# Altium integrated library Linear Technology PMIC-Switching Reg LTC1174-LTC3901.IntLib: 2647 symbols (part 112 of 310)
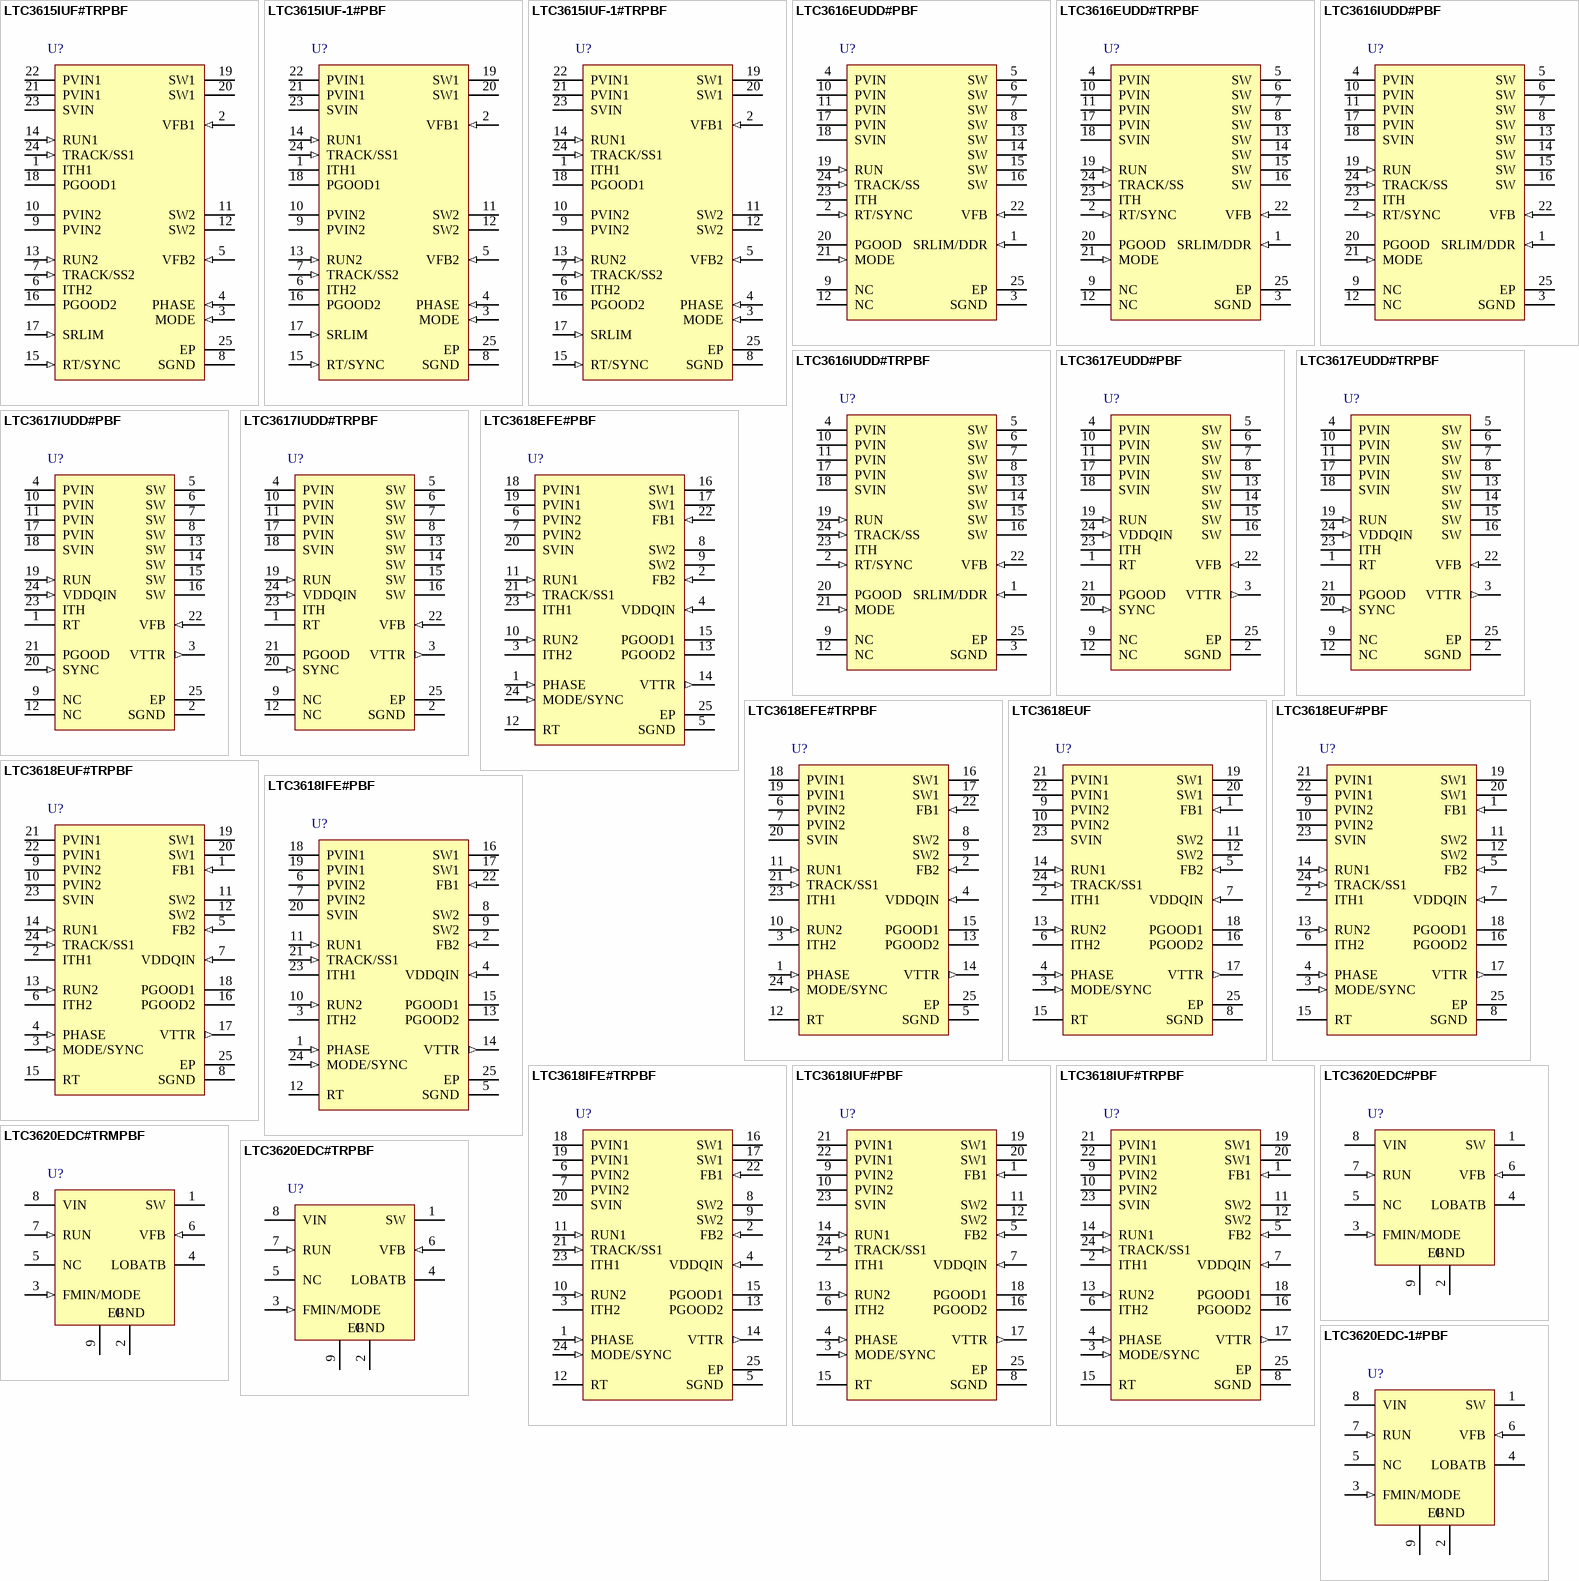
[diagram p180: symbols LTC3615IUF#TRPBF to LTC3620EDC-1#PBF]

## LTC3616EUDD#TRPBF
designator U?
6 A, 4 MHz Monolithic Synchronous Step-Down DC/DC Converter, 24-pin QFN (UDD-24), -40 to 125 degC, Pb-Free, Tape and Reel; Manufacturer: Linear Technology; PartNumber: LTC3616EUDD#TRPBF; Number of Outputs: 1; PackageReference: UDD-24; PackageDescription: 24-Pin Plastic QFN, Body 5 x 3 mm, Pitch 0.5 mm; Supplier 1: Digi-Key; Supplier Part Number 1: LTC3616EUDD#TRPBF-ND; RoHS: TRUE
footprint LT-UDD-24_N (QFN, 24-Leads, Body 5.1x3.1mm, Pitch 0.5mm, Thermal Pad 3.65x1.65mm, IPC Medium Density)
footprint LT-UDD-24_L (QFN, 24-Leads, Body 5.1x3.1mm, Pitch 0.5mm, Thermal Pad 3.65x1.65mm, IPC High Density)
footprint LT-UDD-24_M (QFN, 24-Leads, Body 5.1x3.1mm, Pitch 0.5mm, Thermal Pad 3.65x1.65mm, IPC Low Density)
pins: 1 SRLIM/DDR (in) "Slew Rate Limit. Tying this pin to ground selects maximum slew rate. Minimum slew rate is selected when the pin is open. Connecting a resistor from SRLIM/DDR to ground allows the slew rate to be continuously adjusted. If (See Datasheet)", 2 RT/SYNC (in), 3 SGND (power) "Signal Ground. All small-signal and compensation components should connect to this ground, which in turn should connect to PGND at a single point.", 4 PVIN (power) "Power Input Supply. PVIN connects to the source of the internal P-channel power MOSFET. This pin is independent of SVIN and may be connected to the same voltage or to a lower voltage supply.", 5 SW (power) "Switch Node. Connection to the inductor. These pins connect to the drains of the internal synchronous power MOSFET switches.", 6 SW (power) "Switch Node. Connection to the inductor. These pins connect to the drains of the internal synchronous power MOSFET switches.", 7 SW (power) "Switch Node. Connection to the inductor. These pins connect to the drains of the internal synchronous power MOSFET switches.", 8 SW (power) "Switch Node. Connection to the inductor. These pins connect to the drains of the internal synchronous power MOSFET switches.", 9 NC "Can be connected to ground or left open.", 10 PVIN (power) "Power Input Supply. PVIN connects to the source of the internal P-channel power MOSFET. This pin is independent of SVIN and may be connected to the same voltage or to a lower voltage supply.", 11 PVIN (power) "Power Input Supply. PVIN connects to the source of the internal P-channel power MOSFET. This pin is independent of SVIN and may be connected to the same voltage or to a lower voltage supply.", 12 NC "Can be connected to ground or left open.", 13 SW (power) "Switch Node. Connection to the inductor. These pins connect to the drains of the internal synchronous power MOSFET switches.", 14 SW (power) "Switch Node. Connection to the inductor. These pins connect to the drains of the internal synchronous power MOSFET switches.", 15 SW (power) "Switch Node. Connection to the inductor. These pins connect to the drains of the internal synchronous power MOSFET switches.", 16 SW (power) "Switch Node. Connection to the inductor. These pins connect to the drains of the internal synchronous power MOSFET switches.", 17 PVIN (power) "Power Input Supply. PVIN connects to the source of the internal P-channel power MOSFET. This pin is independent of SVIN and may be connected to the same voltage or to a lower voltage supply.", 18 SVIN (power) "Signal Input Supply. This pin powers the internal control circuitry and is monitored by the undervoltage lockout comparator.", 19 RUN (in), 20 PGOOD (oc) "Power Good. This open-drain output is pulled down to SGND on start-up and while the FB voltage is outside the power good voltage window. If the FB voltage increases and stays inside the power good window for more than 100us (See Datasheet)", 21 MODE (in) "Mode Selection. Tying the MODE pin to SVIN or SGND enables pulse-skipping mode or Burst  Mode operation (with an internal Burst Mode clamp),  respectively. If this pin is held at slightly higher than half of SVIN, forced (See Datasheet)", 22 VFB (in) "Voltage Feedback Input Pin. Senses the feedback voltage from the external resistive divider across the output.", 23 ITH "Error Amplifier Compensation. The current  comparator's threshold increases with this control voltage. Tying this pin to SVIN enables internal compensation  and AVP mode.", 24 TRACK/SS (in) "Track/External Soft-Start/External  Reference. Start-up behavior is programmable with the TRACK/SS pin: 1. Tying this pin to SVIN selects the internal soft-start circuit. 2. External soft-start timing can be programmed with (See Datasheet)", 25 EP (power) "Power Ground. This pin  connects to the source of the internal N-channel power  MOSFET. This pin should be connected close to the (-)  terminal of CIN and COUT"

## LTC3616IUDD#PBF
designator U?
6 A, 4 MHz Monolithic Synchronous Step-Down DC/DC Converter, 24-pin QFN (UDD-24), -40 to 125 degC, Pb-Free; Manufacturer: Linear Technology; PartNumber: LTC3616IUDD#PBF; Number of Outputs: 1; PackageReference: UDD-24; PackageDescription: 24-Pin Plastic QFN, Body 5 x 3 mm, Pitch 0.5 mm; Supplier 1: Digi-Key; Supplier Part Number 1: LTC3616IUDD#PBF-ND; RoHS: TRUE
footprint LT-UDD-24_N (QFN, 24-Leads, Body 5.1x3.1mm, Pitch 0.5mm, Thermal Pad 3.65x1.65mm, IPC Medium Density)
footprint LT-UDD-24_L (QFN, 24-Leads, Body 5.1x3.1mm, Pitch 0.5mm, Thermal Pad 3.65x1.65mm, IPC High Density)
footprint LT-UDD-24_M (QFN, 24-Leads, Body 5.1x3.1mm, Pitch 0.5mm, Thermal Pad 3.65x1.65mm, IPC Low Density)
pins: 1 SRLIM/DDR (in) "Slew Rate Limit. Tying this pin to ground selects maximum slew rate. Minimum slew rate is selected when the pin is open. Connecting a resistor from SRLIM/DDR to ground allows the slew rate to be continuously adjusted. If (See Datasheet)", 2 RT/SYNC (in), 3 SGND (power) "Signal Ground. All small-signal and compensation components should connect to this ground, which in turn should connect to PGND at a single point.", 4 PVIN (power) "Power Input Supply. PVIN connects to the source of the internal P-channel power MOSFET. This pin is independent of SVIN and may be connected to the same voltage or to a lower voltage supply.", 5 SW (power) "Switch Node. Connection to the inductor. These pins connect to the drains of the internal synchronous power MOSFET switches.", 6 SW (power) "Switch Node. Connection to the inductor. These pins connect to the drains of the internal synchronous power MOSFET switches.", 7 SW (power) "Switch Node. Connection to the inductor. These pins connect to the drains of the internal synchronous power MOSFET switches.", 8 SW (power) "Switch Node. Connection to the inductor. These pins connect to the drains of the internal synchronous power MOSFET switches.", 9 NC "Can be connected to ground or left open.", 10 PVIN (power) "Power Input Supply. PVIN connects to the source of the internal P-channel power MOSFET. This pin is independent of SVIN and may be connected to the same voltage or to a lower voltage supply.", 11 PVIN (power) "Power Input Supply. PVIN connects to the source of the internal P-channel power MOSFET. This pin is independent of SVIN and may be connected to the same voltage or to a lower voltage supply.", 12 NC "Can be connected to ground or left open.", 13 SW (power) "Switch Node. Connection to the inductor. These pins connect to the drains of the internal synchronous power MOSFET switches.", 14 SW (power) "Switch Node. Connection to the inductor. These pins connect to the drains of the internal synchronous power MOSFET switches.", 15 SW (power) "Switch Node. Connection to the inductor. These pins connect to the drains of the internal synchronous power MOSFET switches.", 16 SW (power) "Switch Node. Connection to the inductor. These pins connect to the drains of the internal synchronous power MOSFET switches.", 17 PVIN (power) "Power Input Supply. PVIN connects to the source of the internal P-channel power MOSFET. This pin is independent of SVIN and may be connected to the same voltage or to a lower voltage supply.", 18 SVIN (power) "Signal Input Supply. This pin powers the internal control circuitry and is monitored by the undervoltage lockout comparator.", 19 RUN (in), 20 PGOOD (oc) "Power Good. This open-drain output is pulled down to SGND on start-up and while the FB voltage is outside the power good voltage window. If the FB voltage increases and stays inside the power good window for more than 100us (See Datasheet)", 21 MODE (in) "Mode Selection. Tying the MODE pin to SVIN or SGND enables pulse-skipping mode or Burst  Mode operation (with an internal Burst Mode clamp),  respectively. If this pin is held at slightly higher than half of SVIN, forced (See Datasheet)", 22 VFB (in) "Voltage Feedback Input Pin. Senses the feedback voltage from the external resistive divider across the output.", 23 ITH "Error Amplifier Compensation. The current  comparator's threshold increases with this control voltage. Tying this pin to SVIN enables internal compensation  and AVP mode.", 24 TRACK/SS (in) "Track/External Soft-Start/External  Reference. Start-up behavior is programmable with the TRACK/SS pin: 1. Tying this pin to SVIN selects the internal soft-start circuit. 2. External soft-start timing can be programmed with (See Datasheet)", 25 EP (power) "Power Ground. This pin  connects to the source of the internal N-channel power  MOSFET. This pin should be connected close to the (-)  terminal of CIN and COUT"

## LTC3616IUDD#TRPBF
designator U?
6 A, 4 MHz Monolithic Synchronous Step-Down DC/DC Converter, 24-pin QFN (UDD-24), -40 to 125 degC, Pb-Free, Tape and Reel; Manufacturer: Linear Technology; PartNumber: LTC3616IUDD#TRPBF; Number of Outputs: 1; PackageReference: UDD-24; PackageDescription: 24-Pin Plastic QFN, Body 5 x 3 mm, Pitch 0.5 mm; Supplier 1: Digi-Key; Supplier Part Number 1: LTC3616IUDD#TRPBF-ND; RoHS: TRUE
footprint LT-UDD-24_N (QFN, 24-Leads, Body 5.1x3.1mm, Pitch 0.5mm, Thermal Pad 3.65x1.65mm, IPC Medium Density)
footprint LT-UDD-24_L (QFN, 24-Leads, Body 5.1x3.1mm, Pitch 0.5mm, Thermal Pad 3.65x1.65mm, IPC High Density)
footprint LT-UDD-24_M (QFN, 24-Leads, Body 5.1x3.1mm, Pitch 0.5mm, Thermal Pad 3.65x1.65mm, IPC Low Density)
pins: 1 SRLIM/DDR (in) "Slew Rate Limit. Tying this pin to ground selects maximum slew rate. Minimum slew rate is selected when the pin is open. Connecting a resistor from SRLIM/DDR to ground allows the slew rate to be continuously adjusted. If (See Datasheet)", 2 RT/SYNC (in), 3 SGND (power) "Signal Ground. All small-signal and compensation components should connect to this ground, which in turn should connect to PGND at a single point.", 4 PVIN (power) "Power Input Supply. PVIN connects to the source of the internal P-channel power MOSFET. This pin is independent of SVIN and may be connected to the same voltage or to a lower voltage supply.", 5 SW (power) "Switch Node. Connection to the inductor. These pins connect to the drains of the internal synchronous power MOSFET switches.", 6 SW (power) "Switch Node. Connection to the inductor. These pins connect to the drains of the internal synchronous power MOSFET switches.", 7 SW (power) "Switch Node. Connection to the inductor. These pins connect to the drains of the internal synchronous power MOSFET switches.", 8 SW (power) "Switch Node. Connection to the inductor. These pins connect to the drains of the internal synchronous power MOSFET switches.", 9 NC "Can be connected to ground or left open.", 10 PVIN (power) "Power Input Supply. PVIN connects to the source of the internal P-channel power MOSFET. This pin is independent of SVIN and may be connected to the same voltage or to a lower voltage supply.", 11 PVIN (power) "Power Input Supply. PVIN connects to the source of the internal P-channel power MOSFET. This pin is independent of SVIN and may be connected to the same voltage or to a lower voltage supply.", 12 NC "Can be connected to ground or left open.", 13 SW (power) "Switch Node. Connection to the inductor. These pins connect to the drains of the internal synchronous power MOSFET switches.", 14 SW (power) "Switch Node. Connection to the inductor. These pins connect to the drains of the internal synchronous power MOSFET switches.", 15 SW (power) "Switch Node. Connection to the inductor. These pins connect to the drains of the internal synchronous power MOSFET switches.", 16 SW (power) "Switch Node. Connection to the inductor. These pins connect to the drains of the internal synchronous power MOSFET switches.", 17 PVIN (power) "Power Input Supply. PVIN connects to the source of the internal P-channel power MOSFET. This pin is independent of SVIN and may be connected to the same voltage or to a lower voltage supply.", 18 SVIN (power) "Signal Input Supply. This pin powers the internal control circuitry and is monitored by the undervoltage lockout comparator.", 19 RUN (in), 20 PGOOD (oc) "Power Good. This open-drain output is pulled down to SGND on start-up and while the FB voltage is outside the power good voltage window. If the FB voltage increases and stays inside the power good window for more than 100us (See Datasheet)", 21 MODE (in) "Mode Selection. Tying the MODE pin to SVIN or SGND enables pulse-skipping mode or Burst  Mode operation (with an internal Burst Mode clamp),  respectively. If this pin is held at slightly higher than half of SVIN, forced (See Datasheet)", 22 VFB (in) "Voltage Feedback Input Pin. Senses the feedback voltage from the external resistive divider across the output.", 23 ITH "Error Amplifier Compensation. The current  comparator's threshold increases with this control voltage. Tying this pin to SVIN enables internal compensation  and AVP mode.", 24 TRACK/SS (in) "Track/External Soft-Start/External  Reference. Start-up behavior is programmable with the TRACK/SS pin: 1. Tying this pin to SVIN selects the internal soft-start circuit. 2. External soft-start timing can be programmed with (See Datasheet)", 25 EP (power) "Power Ground. This pin  connects to the source of the internal N-channel power  MOSFET. This pin should be connected close to the (-)  terminal of CIN and COUT"

## LTC3617EUDD#PBF
designator U?
+/-6 A Monolithic Synchronous Step-Down Regulator for DDR Termination, 24-pin QFN (UDD-24), -40 to 125 degC, Pb-Free; Manufacturer: Linear Technology; PartNumber: LTC3617EUDD#PBF; Number of Outputs: 2; PackageReference: UDD-24; PackageDescription: 24-Pin Plastic QFN, Body 5 x 3 mm, Pitch 0.5 mm; Supplier 1: Digi-Key; Supplier Part Number 1: LTC3617EUDD#PBF-ND; RoHS: TRUE
footprint LT-UDD-24_N (QFN, 24-Leads, Body 5.1x3.1mm, Pitch 0.5mm, Thermal Pad 3.65x1.65mm, IPC Medium Density)
footprint LT-UDD-24_L (QFN, 24-Leads, Body 5.1x3.1mm, Pitch 0.5mm, Thermal Pad 3.65x1.65mm, IPC High Density)
footprint LT-UDD-24_M (QFN, 24-Leads, Body 5.1x3.1mm, Pitch 0.5mm, Thermal Pad 3.65x1.65mm, IPC Low Density)
pins: 1 RT "Oscillator Frequency. This pin provides two ways of setting the constant switching frequency: 1. Connecting a resistor from RT to ground will set the switching frequency based on the resistor value. 2. Tying the RT pin to (See Datasheet)", 2 SGND (power) "Signal Ground. All small-signal and compensation components should connect to this ground, which in turn should connect to PGND at a single point.", 3 VTTR (out) "Voltage Buffer Output. This pin is the output of an internal voltage buffer whose voltage is equal to VDDQIN 0.5. Output current capability is +/-10mA. VTTR is also the reference voltage of the error amplifier, whic(See Datasheet)", 4 PVIN (power) "Power Input Supply. PVIN connects to the source of the internal P-channel power MOSFET. This pin is independent of SVIN and may be connected to the same supply or to a lower voltage.", 5 SW (power) "Switch Node. Connection to the inductor. These pins connect to the drains of the internal power MOSFET switches.", 6 SW (power) "Switch Node. Connection to the inductor. These pins connect to the drains of the internal power MOSFET switches.", 7 SW (power) "Switch Node. Connection to the inductor. These pins connect to the drains of the internal power MOSFET switches.", 8 SW (power) "Switch Node. Connection to the inductor. These pins connect to the drains of the internal power MOSFET switches.", 9 NC "Can be connected to ground or left open.", 10 PVIN (power) "Power Input Supply. PVIN connects to the source of the internal P-channel power MOSFET. This pin is independent of SVIN and may be connected to the same supply or to a lower voltage.", 11 PVIN (power) "Power Input Supply. PVIN connects to the source of the internal P-channel power MOSFET. This pin is independent of SVIN and may be connected to the same supply or to a lower voltage.", 12 NC "Can be connected to ground or left open.", 13 SW (power) "Switch Node. Connection to the inductor. These pins connect to the drains of the internal power MOSFET switches.", 14 SW (power) "Switch Node. Connection to the inductor. These pins connect to the drains of the internal power MOSFET switches.", 15 SW (power) "Switch Node. Connection to the inductor. These pins connect to the drains of the internal power MOSFET switches.", 16 SW (power) "Switch Node. Connection to the inductor. These pins connect to the drains of the internal power MOSFET switches.", 17 PVIN (power) "Power Input Supply. PVIN connects to the source of the internal P-channel power MOSFET. This pin is independent of SVIN and may be connected to the same supply or to a lower voltage.", 18 SVIN (power) "Signal Input Supply. This pin powers the internal control circuitry and is monitored by the undervoltage lockout comparator.", 19 RUN (in) "Enable Input. Pulling this pin high enables the LTC3617 and forcing it to ground shuts the regulator down. In shutdown, all functions are disabled and the chip draws <1uA of supply current.", 20 SYNC (in) "External Synchronization Input. When a clock signal is applied to this pin, the switching frequency synchronizes to this clock signal. This pin can be either floating or tied to ground if an external clock is not being used.", 21 PGOOD (oc) "Power Good. This open-drain output is pulled down to SGND on start-up and when the FB voltage is outside the power good voltage window. If the FB voltage increases and stays inside the power good window for more than 100us (See Datasheet)", 22 VFB (in) "Voltage Feedback Input Pin. Senses the feedback voltage from the external resistive divider across the output.", 23 ITH "Error Amplifier Compensation. The current comparator’s threshold increases with this control voltage. Tying this pin to SVIN enables internal compensation.", 24 VDDQIN (in) "External Reference Input. An internal resistor divider sets the VTTR and VFB regulated voltages to be equal to half the voltage applied to this input.", 25 EP (power) "Power Ground. This pin connects to the source of the internal N-channel power MOSFET. This pin should be connected close to the (-) terminal of CIN and COUT."

## LTC3617EUDD#TRPBF
designator U?
+/-6 A Monolithic Synchronous Step-Down Regulator for DDR Termination, 24-pin QFN (UDD-24), -40 to 125 degC, Pb-Free, Tape and Reel; Manufacturer: Linear Technology; PartNumber: LTC3617EUDD#TRPBF; Number of Outputs: 2; PackageReference: UDD-24; PackageDescription: 24-Pin Plastic QFN, Body 5 x 3 mm, Pitch 0.5 mm; Supplier 1: Digi-Key; Supplier Part Number 1: LTC3617EUDD#TRPBF-ND; RoHS: TRUE
footprint LT-UDD-24_N (QFN, 24-Leads, Body 5.1x3.1mm, Pitch 0.5mm, Thermal Pad 3.65x1.65mm, IPC Medium Density)
footprint LT-UDD-24_L (QFN, 24-Leads, Body 5.1x3.1mm, Pitch 0.5mm, Thermal Pad 3.65x1.65mm, IPC High Density)
footprint LT-UDD-24_M (QFN, 24-Leads, Body 5.1x3.1mm, Pitch 0.5mm, Thermal Pad 3.65x1.65mm, IPC Low Density)
pins: 1 RT "Oscillator Frequency. This pin provides two ways of setting the constant switching frequency: 1. Connecting a resistor from RT to ground will set the switching frequency based on the resistor value. 2. Tying the RT pin to (See Datasheet)", 2 SGND (power) "Signal Ground. All small-signal and compensation components should connect to this ground, which in turn should connect to PGND at a single point.", 3 VTTR (out) "Voltage Buffer Output. This pin is the output of an internal voltage buffer whose voltage is equal to VDDQIN 0.5. Output current capability is +/-10mA. VTTR is also the reference voltage of the error amplifier, whic(See Datasheet)", 4 PVIN (power) "Power Input Supply. PVIN connects to the source of the internal P-channel power MOSFET. This pin is independent of SVIN and may be connected to the same supply or to a lower voltage.", 5 SW (power) "Switch Node. Connection to the inductor. These pins connect to the drains of the internal power MOSFET switches.", 6 SW (power) "Switch Node. Connection to the inductor. These pins connect to the drains of the internal power MOSFET switches.", 7 SW (power) "Switch Node. Connection to the inductor. These pins connect to the drains of the internal power MOSFET switches.", 8 SW (power) "Switch Node. Connection to the inductor. These pins connect to the drains of the internal power MOSFET switches.", 9 NC "Can be connected to ground or left open.", 10 PVIN (power) "Power Input Supply. PVIN connects to the source of the internal P-channel power MOSFET. This pin is independent of SVIN and may be connected to the same supply or to a lower voltage.", 11 PVIN (power) "Power Input Supply. PVIN connects to the source of the internal P-channel power MOSFET. This pin is independent of SVIN and may be connected to the same supply or to a lower voltage.", 12 NC "Can be connected to ground or left open.", 13 SW (power) "Switch Node. Connection to the inductor. These pins connect to the drains of the internal power MOSFET switches.", 14 SW (power) "Switch Node. Connection to the inductor. These pins connect to the drains of the internal power MOSFET switches.", 15 SW (power) "Switch Node. Connection to the inductor. These pins connect to the drains of the internal power MOSFET switches.", 16 SW (power) "Switch Node. Connection to the inductor. These pins connect to the drains of the internal power MOSFET switches.", 17 PVIN (power) "Power Input Supply. PVIN connects to the source of the internal P-channel power MOSFET. This pin is independent of SVIN and may be connected to the same supply or to a lower voltage.", 18 SVIN (power) "Signal Input Supply. This pin powers the internal control circuitry and is monitored by the undervoltage lockout comparator.", 19 RUN (in) "Enable Input. Pulling this pin high enables the LTC3617 and forcing it to ground shuts the regulator down. In shutdown, all functions are disabled and the chip draws <1uA of supply current.", 20 SYNC (in) "External Synchronization Input. When a clock signal is applied to this pin, the switching frequency synchronizes to this clock signal. This pin can be either floating or tied to ground if an external clock is not being used.", 21 PGOOD (oc) "Power Good. This open-drain output is pulled down to SGND on start-up and when the FB voltage is outside the power good voltage window. If the FB voltage increases and stays inside the power good window for more than 100us (See Datasheet)", 22 VFB (in) "Voltage Feedback Input Pin. Senses the feedback voltage from the external resistive divider across the output.", 23 ITH "Error Amplifier Compensation. The current comparator’s threshold increases with this control voltage. Tying this pin to SVIN enables internal compensation.", 24 VDDQIN (in) "External Reference Input. An internal resistor divider sets the VTTR and VFB regulated voltages to be equal to half the voltage applied to this input.", 25 EP (power) "Power Ground. This pin connects to the source of the internal N-channel power MOSFET. This pin should be connected close to the (-) terminal of CIN and COUT."

## LTC3617IUDD#PBF
designator U?
+/-6 A Monolithic Synchronous Step-Down Regulator for DDR Termination, 24-pin QFN (UDD-24), -40 to 125 degC, Pb-Free; Manufacturer: Linear Technology; PartNumber: LTC3617IUDD#PBF; Number of Outputs: 2; PackageReference: UDD-24; PackageDescription: 24-Pin Plastic QFN, Body 5 x 3 mm, Pitch 0.5 mm; Supplier 1: Digi-Key; Supplier Part Number 1: LTC3617IUDD#PBF-ND; RoHS: TRUE
footprint LT-UDD-24_N (QFN, 24-Leads, Body 5.1x3.1mm, Pitch 0.5mm, Thermal Pad 3.65x1.65mm, IPC Medium Density)
footprint LT-UDD-24_L (QFN, 24-Leads, Body 5.1x3.1mm, Pitch 0.5mm, Thermal Pad 3.65x1.65mm, IPC High Density)
footprint LT-UDD-24_M (QFN, 24-Leads, Body 5.1x3.1mm, Pitch 0.5mm, Thermal Pad 3.65x1.65mm, IPC Low Density)
pins: 1 RT "Oscillator Frequency. This pin provides two ways of setting the constant switching frequency: 1. Connecting a resistor from RT to ground will set the switching frequency based on the resistor value. 2. Tying the RT pin to (See Datasheet)", 2 SGND (power) "Signal Ground. All small-signal and compensation components should connect to this ground, which in turn should connect to PGND at a single point.", 3 VTTR (out) "Voltage Buffer Output. This pin is the output of an internal voltage buffer whose voltage is equal to VDDQIN 0.5. Output current capability is +/-10mA. VTTR is also the reference voltage of the error amplifier, whic(See Datasheet)", 4 PVIN (power) "Power Input Supply. PVIN connects to the source of the internal P-channel power MOSFET. This pin is independent of SVIN and may be connected to the same supply or to a lower voltage.", 5 SW (power) "Switch Node. Connection to the inductor. These pins connect to the drains of the internal power MOSFET switches.", 6 SW (power) "Switch Node. Connection to the inductor. These pins connect to the drains of the internal power MOSFET switches.", 7 SW (power) "Switch Node. Connection to the inductor. These pins connect to the drains of the internal power MOSFET switches.", 8 SW (power) "Switch Node. Connection to the inductor. These pins connect to the drains of the internal power MOSFET switches.", 9 NC "Can be connected to ground or left open.", 10 PVIN (power) "Power Input Supply. PVIN connects to the source of the internal P-channel power MOSFET. This pin is independent of SVIN and may be connected to the same supply or to a lower voltage.", 11 PVIN (power) "Power Input Supply. PVIN connects to the source of the internal P-channel power MOSFET. This pin is independent of SVIN and may be connected to the same supply or to a lower voltage.", 12 NC "Can be connected to ground or left open.", 13 SW (power) "Switch Node. Connection to the inductor. These pins connect to the drains of the internal power MOSFET switches.", 14 SW (power) "Switch Node. Connection to the inductor. These pins connect to the drains of the internal power MOSFET switches.", 15 SW (power) "Switch Node. Connection to the inductor. These pins connect to the drains of the internal power MOSFET switches.", 16 SW (power) "Switch Node. Connection to the inductor. These pins connect to the drains of the internal power MOSFET switches.", 17 PVIN (power) "Power Input Supply. PVIN connects to the source of the internal P-channel power MOSFET. This pin is independent of SVIN and may be connected to the same supply or to a lower voltage.", 18 SVIN (power) "Signal Input Supply. This pin powers the internal control circuitry and is monitored by the undervoltage lockout comparator.", 19 RUN (in) "Enable Input. Pulling this pin high enables the LTC3617 and forcing it to ground shuts the regulator down. In shutdown, all functions are disabled and the chip draws <1uA of supply current.", 20 SYNC (in) "External Synchronization Input. When a clock signal is applied to this pin, the switching frequency synchronizes to this clock signal. This pin can be either floating or tied to ground if an external clock is not being used.", 21 PGOOD (oc) "Power Good. This open-drain output is pulled down to SGND on start-up and when the FB voltage is outside the power good voltage window. If the FB voltage increases and stays inside the power good window for more than 100us (See Datasheet)", 22 VFB (in) "Voltage Feedback Input Pin. Senses the feedback voltage from the external resistive divider across the output.", 23 ITH "Error Amplifier Compensation. The current comparator’s threshold increases with this control voltage. Tying this pin to SVIN enables internal compensation.", 24 VDDQIN (in) "External Reference Input. An internal resistor divider sets the VTTR and VFB regulated voltages to be equal to half the voltage applied to this input.", 25 EP (power) "Power Ground. This pin connects to the source of the internal N-channel power MOSFET. This pin should be connected close to the (-) terminal of CIN and COUT."

## LTC3617IUDD#TRPBF
designator U?
+/-6 A Monolithic Synchronous Step-Down Regulator for DDR Termination, 24-pin QFN (UDD-24), -40 to 125 degC, Pb-Free, Tape and Reel; Manufacturer: Linear Technology; PartNumber: LTC3617IUDD#TRPBF; Number of Outputs: 2; PackageReference: UDD-24; PackageDescription: 24-Pin Plastic QFN, Body 5 x 3 mm, Pitch 0.5 mm; Supplier 1: Digi-Key; Supplier Part Number 1: LTC3617IUDD#TRPBF-ND; RoHS: TRUE
footprint LT-UDD-24_N (QFN, 24-Leads, Body 5.1x3.1mm, Pitch 0.5mm, Thermal Pad 3.65x1.65mm, IPC Medium Density)
footprint LT-UDD-24_L (QFN, 24-Leads, Body 5.1x3.1mm, Pitch 0.5mm, Thermal Pad 3.65x1.65mm, IPC High Density)
footprint LT-UDD-24_M (QFN, 24-Leads, Body 5.1x3.1mm, Pitch 0.5mm, Thermal Pad 3.65x1.65mm, IPC Low Density)
pins: 1 RT "Oscillator Frequency. This pin provides two ways of setting the constant switching frequency: 1. Connecting a resistor from RT to ground will set the switching frequency based on the resistor value. 2. Tying the RT pin to (See Datasheet)", 2 SGND (power) "Signal Ground. All small-signal and compensation components should connect to this ground, which in turn should connect to PGND at a single point.", 3 VTTR (out) "Voltage Buffer Output. This pin is the output of an internal voltage buffer whose voltage is equal to VDDQIN 0.5. Output current capability is +/-10mA. VTTR is also the reference voltage of the error amplifier, whic(See Datasheet)", 4 PVIN (power) "Power Input Supply. PVIN connects to the source of the internal P-channel power MOSFET. This pin is independent of SVIN and may be connected to the same supply or to a lower voltage.", 5 SW (power) "Switch Node. Connection to the inductor. These pins connect to the drains of the internal power MOSFET switches.", 6 SW (power) "Switch Node. Connection to the inductor. These pins connect to the drains of the internal power MOSFET switches.", 7 SW (power) "Switch Node. Connection to the inductor. These pins connect to the drains of the internal power MOSFET switches.", 8 SW (power) "Switch Node. Connection to the inductor. These pins connect to the drains of the internal power MOSFET switches.", 9 NC "Can be connected to ground or left open.", 10 PVIN (power) "Power Input Supply. PVIN connects to the source of the internal P-channel power MOSFET. This pin is independent of SVIN and may be connected to the same supply or to a lower voltage.", 11 PVIN (power) "Power Input Supply. PVIN connects to the source of the internal P-channel power MOSFET. This pin is independent of SVIN and may be connected to the same supply or to a lower voltage.", 12 NC "Can be connected to ground or left open.", 13 SW (power) "Switch Node. Connection to the inductor. These pins connect to the drains of the internal power MOSFET switches.", 14 SW (power) "Switch Node. Connection to the inductor. These pins connect to the drains of the internal power MOSFET switches.", 15 SW (power) "Switch Node. Connection to the inductor. These pins connect to the drains of the internal power MOSFET switches.", 16 SW (power) "Switch Node. Connection to the inductor. These pins connect to the drains of the internal power MOSFET switches.", 17 PVIN (power) "Power Input Supply. PVIN connects to the source of the internal P-channel power MOSFET. This pin is independent of SVIN and may be connected to the same supply or to a lower voltage.", 18 SVIN (power) "Signal Input Supply. This pin powers the internal control circuitry and is monitored by the undervoltage lockout comparator.", 19 RUN (in) "Enable Input. Pulling this pin high enables the LTC3617 and forcing it to ground shuts the regulator down. In shutdown, all functions are disabled and the chip draws <1uA of supply current.", 20 SYNC (in) "External Synchronization Input. When a clock signal is applied to this pin, the switching frequency synchronizes to this clock signal. This pin can be either floating or tied to ground if an external clock is not being used.", 21 PGOOD (oc) "Power Good. This open-drain output is pulled down to SGND on start-up and when the FB voltage is outside the power good voltage window. If the FB voltage increases and stays inside the power good window for more than 100us (See Datasheet)", 22 VFB (in) "Voltage Feedback Input Pin. Senses the feedback voltage from the external resistive divider across the output.", 23 ITH "Error Amplifier Compensation. The current comparator’s threshold increases with this control voltage. Tying this pin to SVIN enables internal compensation.", 24 VDDQIN (in) "External Reference Input. An internal resistor divider sets the VTTR and VFB regulated voltages to be equal to half the voltage applied to this input.", 25 EP (power) "Power Ground. This pin connects to the source of the internal N-channel power MOSFET. This pin should be connected close to the (-) terminal of CIN and COUT."

## LTC3618EFE#PBF
designator U?
Dual 4 MHz, +/-3 A Synchronous Buck Converter for DDR Termination, 24-pin SOP (FE-24-EPV-AA), -40 to 125 degC, Pb-Free; Manufacturer: Linear Technology; PartNumber: LTC3618EFE#PBF; Number of Outputs: 3; PackageReference: FE-24; PackageDescription: 24-Pin Plastic TSSOP, Body 7.8 x 4.4 mm, Pitch 0.65 mm; Supplier 1: Digi-Key; Supplier Part Number 1: LTC3618EFE#PBF-ND; RoHS: TRUE
footprint LT-FE-24-EPV-AA_N (SOP, 24-Leads, Body 7.9x4.5mm, Pitch 0.65mm, Thermal Pad 2.74x3.25mm, IPC Medium Density)
footprint LT-FE-24-EPV-AA_L (SOP, 24-Leads, Body 7.9x4.5mm, Pitch 0.65mm, Thermal Pad 2.74x3.25mm, IPC High Density)
footprint LT-FE-24-EPV-AA_M (SOP, 24-Leads, Body 7.9x4.5mm, Pitch 0.65mm, Thermal Pad 2.74x3.25mm, IPC Low Density)
pins: 1 PHASE (in) "Phase Shift Selection. If pin is tied to SGND, the phase between SW1 and SW2 will be 0degrees. Tying PHASE to SVIN will select 180degrees phase shift. With the PHASE pin tied to half of the SVIN voltage, 90degrees phase (See Datasheet)", 2 FB2 (in) "Voltage Feedback Input Pin for VTT. See VFB1.", 3 ITH2 "Error Amplifier Compensation of VTT. See ITH1.", 4 VDDQIN (in) "External Reference Input. An internal resistor divider to the error amplifier sets the output voltage of VTT. VFB2 will regulate to VDDQIN ?0.5.", 5 SGND (power) "Signal Ground. All small-signal and compensation components should connect to this ground pin which, in turn, should be connected to PGND at one point.", 6 PVIN2 (power) "VTT Power Supply Input. See PVIN1.", 7 PVIN2 (power) "VTT Power Supply Input. See PVIN1.", 8 SW2 (power) "VTT Switch Node. See SW1.", 9 SW2 (power) "VTT Switch Node. See SW1.", 10 RUN2 (in) "Enable Pin for VTT. See RUN1.", 11 RUN1 (in) "Enable Pin for VDDQ. Forcing RUN1 above the input threshold voltage enables the output SW1 of VDDQ. Forcing both RUNx pins to ground shuts down the LTC3618. In shutdown, all functions are disabled and the LTC3618 draws <1uA (See Datasheet)", 12 RT "Oscillator Frequency. This pin provides two modes of setting the switching frequency. 1. Connecting a resistor from RT to ground will set the switching frequency based on the resistor value. 2. Tying this pin to SVIN enables (See Datasheet)", 13 PGOOD2 (oc) "Power Good Output for VTT. See PGOOD1.", 14 VTTR (out) "Voltage Buffer Output. This pin is the output of an internal voltage buffer whose voltage is equal to VDDQIN ?0.5. Output current capability is +/-10mA. Do not exceed 0.1uF capacitance on this pin. This output i(See Datasheet)", 15 PGOOD1 (oc) "Power Good Output Pin for VDDQ. The open-drain output will be pulled down to ground if the FB1 voltage of the channel is not within the power good voltage window. The PGOOD1 will also be pulled down if the channel is not (See Datasheet)", 16 SW1 (power) "VDDQ Switch Node. Connection to the external inductor. This pin connects to the drains of the internal synchronous power MOSFET switches.", 17 SW1 (power) "VDDQ Switch Node. Connection to the external inductor. This pin connects to the drains of the internal synchronous power MOSFET switches.", 18 PVIN1 (power) "VDDQ Power Supply Inputs. These pins connect to the source of the internal power P-channel MOSFET of VDDQ. PVIN1 and PVIN2 are independent of each other. They may connect to equal or lower supplies than SVIN.", 19 PVIN1 (power) "VDDQ Power Supply Inputs. These pins connect to the source of the internal power P-channel MOSFET of VDDQ. PVIN1 and PVIN2 are independent of each other. They may connect to equal or lower supplies than SVIN.", 20 SVIN (power) "Signal Input Supply. This pin powers the internal control circuitry and is monitored by the undervoltage lockout comparator.", 21 TRACK/SS1 (in) "Internal, External Soft-Start, External Reference Input for VDDQ. The type of start-up behavior for VDDQ is programmable with the TRACK/SS1 pin: 1. Internal soft-start with fixed timing can be programmed by tying TRACK/SS1 (See Datasheet)", 22 FB1 (in) "Voltage Feedback Input Pin for VDDQ. Receives the feedback voltage for VDDQ from the external resistive divider across the output.", 23 ITH1 "Error Amplifier Compensation. Connection for external compensation from ITH to SGND. The current comparator’s threshold increases with this control voltage. Tying this pin to SVIN enables internal compensation.", 24 MODE/SYNC (in) "Mode Selection. 1. Tying the MODE pin to SVIN or SGND enables pulseskipping mode or forced continuous mode respectively for VDDQ only. The default operation mode for VTT is forced continuous mode. The input to the MODE/SYNC (See Datasheet)", 25 EP (power) "Power Ground. The exposed pad connects to the sources of the power N-channel MOSFETs. The PGND pin is common for both channels. The exposed pad must be soldered to the PCB for electrical connection and rated thermal (See Datasheet)"

## LTC3618EFE#TRPBF
designator U?
Dual 4 MHz, +/-3 A Synchronous Buck Converter for DDR Termination, 24-pin SOP (FE-24-EPV-AA), -40 to 125 degC, Pb-Free, Tape and Reel; Manufacturer: Linear Technology; PartNumber: LTC3618EFE#TRPBF; Number of Outputs: 3; PackageReference: FE-24; PackageDescription: 24-Pin Plastic TSSOP, Body 7.8 x 4.4 mm, Pitch 0.65 mm; Supplier 1: Digi-Key; Supplier Part Number 1: LTC3618EFE#TRPBF-ND; RoHS: TRUE
footprint LT-FE-24-EPV-AA_N (SOP, 24-Leads, Body 7.9x4.5mm, Pitch 0.65mm, Thermal Pad 2.74x3.25mm, IPC Medium Density)
footprint LT-FE-24-EPV-AA_L (SOP, 24-Leads, Body 7.9x4.5mm, Pitch 0.65mm, Thermal Pad 2.74x3.25mm, IPC High Density)
footprint LT-FE-24-EPV-AA_M (SOP, 24-Leads, Body 7.9x4.5mm, Pitch 0.65mm, Thermal Pad 2.74x3.25mm, IPC Low Density)
pins: 1 PHASE (in) "Phase Shift Selection. If pin is tied to SGND, the phase between SW1 and SW2 will be 0degrees. Tying PHASE to SVIN will select 180degrees phase shift. With the PHASE pin tied to half of the SVIN voltage, 90degrees phase (See Datasheet)", 2 FB2 (in) "Voltage Feedback Input Pin for VTT. See VFB1.", 3 ITH2 "Error Amplifier Compensation of VTT. See ITH1.", 4 VDDQIN (in) "External Reference Input. An internal resistor divider to the error amplifier sets the output voltage of VTT. VFB2 will regulate to VDDQIN ?0.5.", 5 SGND (power) "Signal Ground. All small-signal and compensation components should connect to this ground pin which, in turn, should be connected to PGND at one point.", 6 PVIN2 (power) "VTT Power Supply Input. See PVIN1.", 7 PVIN2 (power) "VTT Power Supply Input. See PVIN1.", 8 SW2 (power) "VTT Switch Node. See SW1.", 9 SW2 (power) "VTT Switch Node. See SW1.", 10 RUN2 (in) "Enable Pin for VTT. See RUN1.", 11 RUN1 (in) "Enable Pin for VDDQ. Forcing RUN1 above the input threshold voltage enables the output SW1 of VDDQ. Forcing both RUNx pins to ground shuts down the LTC3618. In shutdown, all functions are disabled and the LTC3618 draws <1uA (See Datasheet)", 12 RT "Oscillator Frequency. This pin provides two modes of setting the switching frequency. 1. Connecting a resistor from RT to ground will set the switching frequency based on the resistor value. 2. Tying this pin to SVIN enables (See Datasheet)", 13 PGOOD2 (oc) "Power Good Output for VTT. See PGOOD1.", 14 VTTR (out) "Voltage Buffer Output. This pin is the output of an internal voltage buffer whose voltage is equal to VDDQIN ?0.5. Output current capability is +/-10mA. Do not exceed 0.1uF capacitance on this pin. This output i(See Datasheet)", 15 PGOOD1 (oc) "Power Good Output Pin for VDDQ. The open-drain output will be pulled down to ground if the FB1 voltage of the channel is not within the power good voltage window. The PGOOD1 will also be pulled down if the channel is not (See Datasheet)", 16 SW1 (power) "VDDQ Switch Node. Connection to the external inductor. This pin connects to the drains of the internal synchronous power MOSFET switches.", 17 SW1 (power) "VDDQ Switch Node. Connection to the external inductor. This pin connects to the drains of the internal synchronous power MOSFET switches.", 18 PVIN1 (power) "VDDQ Power Supply Inputs. These pins connect to the source of the internal power P-channel MOSFET of VDDQ. PVIN1 and PVIN2 are independent of each other. They may connect to equal or lower supplies than SVIN.", 19 PVIN1 (power) "VDDQ Power Supply Inputs. These pins connect to the source of the internal power P-channel MOSFET of VDDQ. PVIN1 and PVIN2 are independent of each other. They may connect to equal or lower supplies than SVIN.", 20 SVIN (power) "Signal Input Supply. This pin powers the internal control circuitry and is monitored by the undervoltage lockout comparator.", 21 TRACK/SS1 (in) "Internal, External Soft-Start, External Reference Input for VDDQ. The type of start-up behavior for VDDQ is programmable with the TRACK/SS1 pin: 1. Internal soft-start with fixed timing can be programmed by tying TRACK/SS1 (See Datasheet)", 22 FB1 (in) "Voltage Feedback Input Pin for VDDQ. Receives the feedback voltage for VDDQ from the external resistive divider across the output.", 23 ITH1 "Error Amplifier Compensation. Connection for external compensation from ITH to SGND. The current comparator’s threshold increases with this control voltage. Tying this pin to SVIN enables internal compensation.", 24 MODE/SYNC (in) "Mode Selection. 1. Tying the MODE pin to SVIN or SGND enables pulseskipping mode or forced continuous mode respectively for VDDQ only. The default operation mode for VTT is forced continuous mode. The input to the MODE/SYNC (See Datasheet)", 25 EP (power) "Power Ground. The exposed pad connects to the sources of the power N-channel MOSFETs. The PGND pin is common for both channels. The exposed pad must be soldered to the PCB for electrical connection and rated thermal (See Datasheet)"

## LTC3618EUF
designator U?
Dual 4 MHz, +/-3 A Synchronous Buck Converter for DDR Termination, 24-pin QFN (UF-24), -40 to 125 degC; Manufacturer: Linear Technology; PartNumber: LTC3618EUF; Number of Outputs: 3; PackageReference: UF24; PackageDescription: 24-Pin Plastic QFN, Body 4 x 4 mm, Pitch 0.5 mm; RoHS: FALSE; Code_JEDEC: MO-220
footprint LT-UF-24_N (QFN, 24-Leads, Body 4.1x4.1mm, Pitch 0.5mm, Thermal Pad 2.45x2.45mm, IPC Medium Density)
footprint LT-UF-24_L (QFN, 24-Leads, Body 4.1x4.1mm, Pitch 0.5mm, Thermal Pad 2.45x2.45mm, IPC High Density)
footprint LT-UF-24_M (QFN, 24-Leads, Body 4.1x4.1mm, Pitch 0.5mm, Thermal Pad 2.45x2.45mm, IPC Low Density)
pins: 1 FB1 (in) "Voltage Feedback Input Pin for VDDQ. Receives the feedback voltage for VDDQ from the external resistive divider across the output.", 2 ITH1 "Error Amplifier Compensation. Connection for external compensation from ITH to SGND. The current comparator’s threshold increases with this control voltage. Tying this pin to SVIN enables internal compensation.", 3 MODE/SYNC (in) "Mode Selection. 1. Tying the MODE pin to SVIN or SGND enables pulseskipping mode or forced continuous mode respectively for VDDQ only. The default operation mode for VTT is forced continuous mode. The input to the MODE/SYNC (See Datasheet)", 4 PHASE (in) "Phase Shift Selection. If pin is tied to SGND, the phase between SW1 and SW2 will be 0degrees. Tying PHASE to SVIN will select 180degrees phase shift. With the PHASE pin tied to half of the SVIN voltage, 90degrees phase (See Datasheet)", 5 FB2 (in) "Voltage Feedback Input Pin for VTT. See VFB1.", 6 ITH2 "Error Amplifier Compensation of VTT. See ITH1.", 7 VDDQIN (in) "External Reference Input. An internal resistor divider to the error amplifier sets the output voltage of VTT. VFB2 will regulate to VDDQIN ?0.5.", 8 SGND (power) "Signal Ground. All small-signal and compensation components should connect to this ground pin which, in turn, should be connected to PGND at one point.", 9 PVIN2 (power) "VTT Power Supply Input. See PVIN1.", 10 PVIN2 (power) "VTT Power Supply Input. See PVIN1.", 11 SW2 (power) "VTT Switch Node. See SW1.", 12 SW2 (power) "VTT Switch Node. See SW1.", 13 RUN2 (in) "Enable Pin for VTT. See RUN1.", 14 RUN1 (in) "Enable Pin for VDDQ. Forcing RUN1 above the input threshold voltage enables the output SW1 of VDDQ. Forcing both RUNx pins to ground shuts down the LTC3618. In shutdown, all functions are disabled and the LTC3618 draws <1uA (See Datasheet)", 15 RT "Oscillator Frequency. This pin provides two modes of setting the switching frequency. 1. Connecting a resistor from RT to ground will set the switching frequency based on the resistor value. 2. Tying this pin to SVIN enables (See Datasheet)", 16 PGOOD2 (oc) "Power Good Output for VTT. See PGOOD1.", 17 VTTR (out) "Voltage Buffer Output. This pin is the output of an internal voltage buffer whose voltage is equal to VDDQIN ?0.5. Output current capability is +/-10mA. Do not exceed 0.1uF capacitance on this pin. This output i(See Datasheet)", 18 PGOOD1 (oc) "Power Good Output Pin for VDDQ. The open-drain output will be pulled down to ground if the FB1 voltage of the channel is not within the power good voltage window. The PGOOD1 will also be pulled down if the channel is not (See Datasheet)", 19 SW1 (power) "VDDQ Switch Node. Connection to the external inductor. This pin connects to the drains of the internal synchronous power MOSFET switches.", 20 SW1 (power) "VDDQ Switch Node. Connection to the external inductor. This pin connects to the drains of the internal synchronous power MOSFET switches.", 21 PVIN1 (power) "VDDQ Power Supply Inputs. These pins connect to the source of the internal power P-channel MOSFET of VDDQ. PVIN1 and PVIN2 are independent of each other. They may connect to equal or lower supplies than SVIN.", 22 PVIN1 (power) "VDDQ Power Supply Inputs. These pins connect to the source of the internal power P-channel MOSFET of VDDQ. PVIN1 and PVIN2 are independent of each other. They may connect to equal or lower supplies than SVIN.", 23 SVIN (power) "Signal Input Supply. This pin powers the internal control circuitry and is monitored by the undervoltage lockout comparator.", 24 TRACK/SS1 (in) "Internal, External Soft-Start, External Reference Input for VDDQ. The type of start-up behavior for VDDQ is programmable with the TRACK/SS1 pin: 1. Internal soft-start with fixed timing can be programmed by tying TRACK/SS1 (See Datasheet)", 25 EP (power) "Power Ground. The exposed pad connects to the sources of the power N-channel MOSFETs. The PGND pin is common for both channels. The exposed pad must be soldered to the PCB for electrical connection and rated thermal (See Datasheet)"